# Altium footprint library Capacitors.PcbLib: 21 footprints (part 2 of 2)
Each footprint in its own frame and in the unit in brackets; x right, y up, seen from the top. Pads: shape width x height; smd on the part's side, far side on the other; paste and mask are expansions set on the pad; w line width, h text height; cw(c..) or ccw(c..) is an arc to the next point about the centre after c.
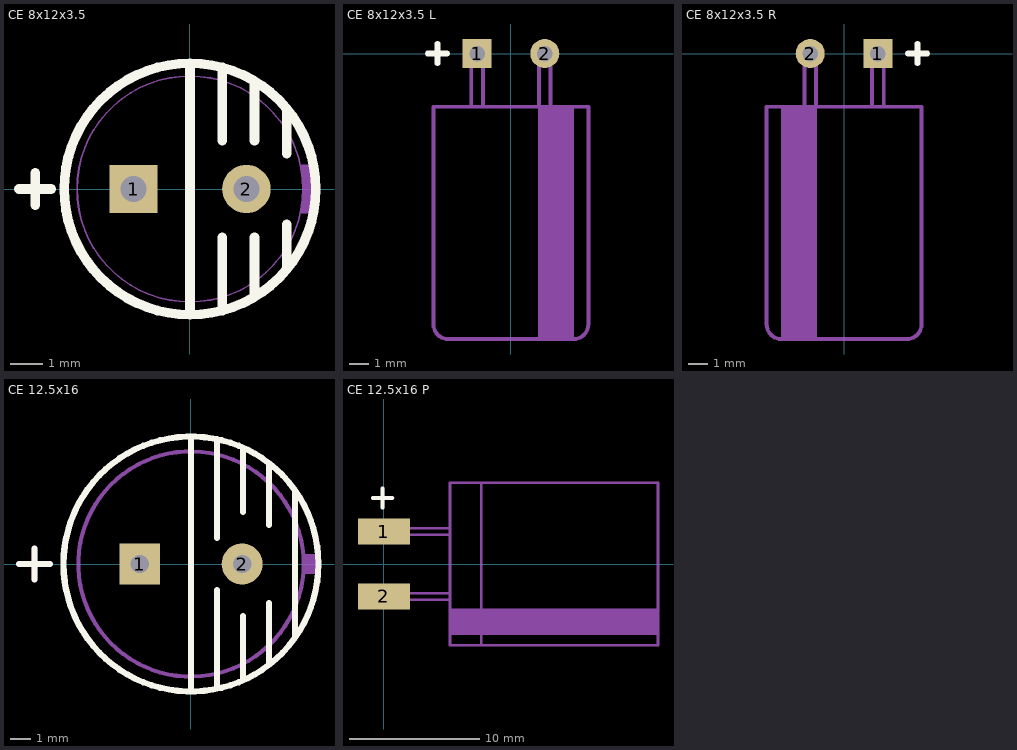
[diagram p1: the footprints below, top view; thin cyan lines are the x and y axes]

## CE 8x12x3.5 [mm]
pads (2):
  rect 1.5x1.5 hole 0.8: 1(-1.75,0)
  round 1.5 hole 0.8: 2(1.75,0)
Top Overlay:
  circle w0.3: c0,0 r3.9
  lines w0.3: -5.3,0 -4.3,0 ; -4.8,-0.5 -4.8,0.5 ; 0,-3.9 0,3.9 ; 1,-3.7 1,-1.5 ; 1,1.5 1,3.7 ; 2,-3.3 2,-1.5 ; 2,1.5 2,3.3 ; 3,-2.4 3,-1.1 ; 3,1.1 3,2.4
Mechanical 3:
  circle w0.05: c0,0 r3.5
  circle w0.05: c0,0 r4
  region: 3.425,-0.75 3.932,-0.75 3.975,-0.525 3.975,-0.275 4,0 4,0.291 3.932,0.75 3.425,0.75 3.5,0
  lines w0.05: -5.3,0 -4.3,0 ; -4.8,-0.5 -4.8,0.5
3D body "Cap electro 8x12x3.5mm.step": height 12.3, standoff -3.3, extent -4.002,-4 4,4

## CE 8x12x3.5 L [mm]
pads (2):
  rect 1.5x1.5 hole 0.8: 1(-1.75,0)
  round 1.5 hole 0.8: 2(1.75,0)
Top Overlay:
  lines w0.3: -4.3,0 -3.3,0 ; -3.8,-0.5 -3.8,0.5
Mechanical 3:
  rectangle: 1.4,-14.75 3.25,-2.75
  lines w0.05: -4.3,0 -3.3,0 ; -3.8,-0.5 -3.8,0.5
  lines w0.2: -2.05,-2.75 -2.05,0 cw(c-1.75,0) -1.45,0 -1.45,-2.75 ; 1.45,-2.75 1.45,0 cw(c1.75,0) 2.05,0 2.05,-2.75 ; -4,-14 ccw(c-3.25,-14) -3.25,-14.75 3.25,-14.75 ccw(c3.25,-14) 4,-14 4,-2.75 -4,-2.75 -4,-14
3D body "Cap electro 8x12x3.5mm R1.step": height 9, standoff -2.6, extent -4.001,-14.877 4.001,0.275

## CE 8x12x3.5 R [mm]
pads (2):
  rect 1.5x1.5 hole 0.8: 1(1.75,0)
  round 1.5 hole 0.8: 2(-1.75,0)
Top Overlay:
  lines w0.3: 3.3,0 4.3,0 ; 3.8,-0.5 3.8,0.5
Mechanical 3:
  region: -1.4,-2.75 -3.25,-2.75 -3.25,-14.75 -1.4,-14.75
  lines w0.05: 3.3,0 4.3,0 ; 3.8,-0.5 3.8,0.5
  lines w0.2: -2.05,-2.75 -2.05,0 cw(c-1.75,0) -1.45,0 -1.45,-2.75 ; 1.45,-2.75 1.45,0 cw(c1.75,0) 2.05,0 2.05,-2.75 ; -4,-14 ccw(c-3.25,-14) -3.25,-14.75 3.25,-14.75 ccw(c3.25,-14) 4,-14 4,-2.75 -4,-2.75 -4,-14
3D body "Cap electro 8x12x3.5mm R2.step": height 9, standoff -3, extent -4.001,-15.295 4.001,0.254

## CE 12.5x16 [mm]
pads (2):
  rect 2x2 hole 0.9: 1(-2.5,0)
  round 2 hole 0.9: 2(2.5,0)
Top Overlay:
  circle w0.3: c0,0 r6.223
  lines w0.3: -8.394,0 -6.894,0 ; -7.644,-0.75 -7.644,0.75 ; 0,-6.096 0,6.223 ; 1.27,-5.969 1.27,-1.27 ; 1.27,1.27 1.27,6.096 ; 2.54,-5.588 2.54,-2.54 ; 2.54,2.54 2.54,5.588 ; 3.81,-4.826 3.81,-1.905 ; 3.81,1.905 3.81,4.826 ; 5.08,-3.556 5.08,3.556
Mechanical 1:
  lines w0.3: -8.394,0 -6.894,0 ; -7.644,-0.75 -7.644,0.75
Mechanical 3:
  circle w0.2: c0,0 r6.25
  circle w0.2: c0,0 r5.5
  rectangle: 5.5,-0.5 6.2,0.5
  text ".Comment" at -3.175,-2.794 h1.52
  text ".Designator" at -2.921,6.604 h1.52

## CE 12.5x16 P [mm]
pads (2):
  rect 4x2 smd: 1(0,2.5) 2(0,-2.5)
Top Overlay:
  lines w0.3: -0.869,5.075 0.631,5.075 ; -0.119,4.325 -0.119,5.825
Mechanical 1:
  rectangle: 5.081,-5.461 21.081,-3.429
  lines w0.2: 5.081,-2.75 -1.919,-2.75 -1.919,-2.25 5.081,-2.25 ; 5.081,2.25 -1.919,2.25 -1.919,2.75 5.081,2.75 ; 7.481,-6.25 7.481,6.25 ; 5.081,-6.25 21.081,-6.25 21.081,6.25 5.081,6.25 5.081,-6.25
  lines w0.3: -0.844,5.075 0.656,5.075 ; -0.094,4.325 -0.094,5.825
  text ".Designator" at 8.835,7 h1.52
  text ".Comment" at 8.001,-2.921 h1.52